# EAGLE library part DCDC (library DCDC)
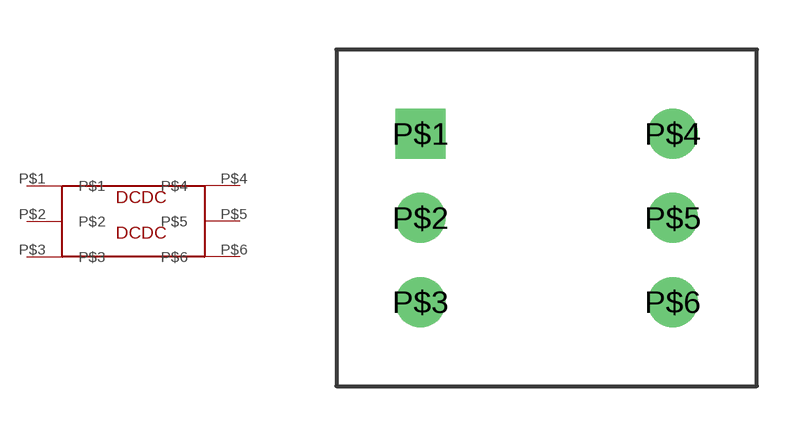
[diagram p0: symbol with the pads of DCDC; footprint DCDC]

Designator prefix DCDC

## DCDC  [DCDC]
P$1  P$1
P$2  P$2
P$3  P$3
P$4  P$4
P$5  P$5
P$6  P$6

## Footprint DCDC (pad centres in mm)
drill 1 square: P$1 -5.08,2.54
drill 1: P$2 -5.08,0; P$3 -5.08,-2.54; P$4 2.54,2.54; P$5 2.54,0; P$6 2.54,-2.54